# Altium integrated library Arsham_libForMMSTester.IntLib: 7 symbols
Pins are listed as number, name and electrical type; pins without a type are passive.

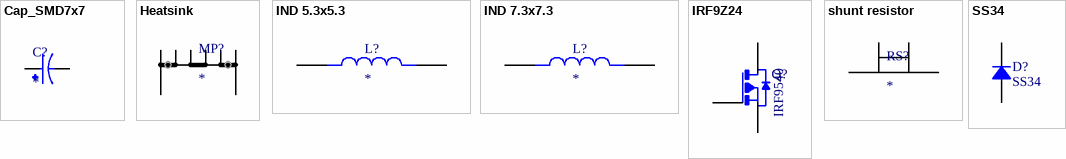
[diagram p0: symbols Cap_SMD7x7 to SS34]

## Cap_SMD7x7
designator C?
footprint PCBComponent_1
pins: 1, 2

## Heatsink
designator MP?
footprint Heatsink (30x23x15mm / https://eshop.eca.ir/%D9%87%DB%8C%D8%AA-%D8%B3%DB%8C%D9%86%DA%A9/10003-%D9%87%DB%8C%D8%AA-%D8%B3%DB%8C%D9%86%DA%A9-%D8%A2%D9%84%D9%88%D9%85%DB%8C%D9%86%DB%8C%D9%88%D9%85%DB%8C-%D9%85%D8%B4%DA%A9%DB%8C-30x23x15mm.html)
pins: 1, 2

## IND 5.3x5.3
designator L?
footprint IND5.3x5.3
pins: 1, 2

## IND 7.3x7.3
designator L?
footprint Ind7.3x6.6
pins: 1, 2

## IRF9Z24
designator Q?  Inflow: IRF9540
P-Channel MOSFET; Rating: Rating?; Type: Type?; Validation: NT; Value: P-Channel; Package: Package?
footprint TO-220AB (Suggested for IRF9540)
pins: 1 G, 2 D, 3 S

## shunt resistor
designator RS?
footprint shunt resistor
pins: 1, 2

## SS34
designator D?
Schottky Rectifiers; Rating: Rating?; Value: SK54; Validation: Valid; Type: Schottky; Package: SMC; Arsham: SS34
footprint SS34
pins: 1, 2